# Altium integrated library SnapEDA_Library.IntLib: 26 symbols (part 2 of 2)

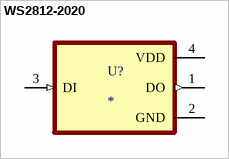
[diagram p23: symbol WS2812-2020]

## WS2812-2020
designator U?
Intelligent control LED integrated light source; MF: {'manufacturer': u'Worldsemi'}; MP: WS2812-2020; Value: *; Price: None; Availability: Unavailable; Package: None
footprint LED_WS2812-2020
pins: 1 DO (out), 2 GND (power), 3 DI (in), 4 VDD (power)


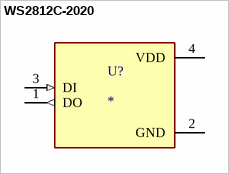
[diagram p24: symbol WS2812C-2020]

## WS2812C-2020
designator U?
Intelligent control LED integrated light source; MF: {'manufacturer': u'Worldsemi'}; MP: WS2812C-2020; Value: *; Price: None; Availability: Unavailable; Package: None
footprint LED_WS2812C-2020
pins: 1 DO (out), 2 GND (power), 3 DI (in), 4 VDD (power)